# Altium schematic symbol library Resistors SMD.SchLib: 56 symbols
Pins are listed as number, name and electrical type; pins without a type are passive.

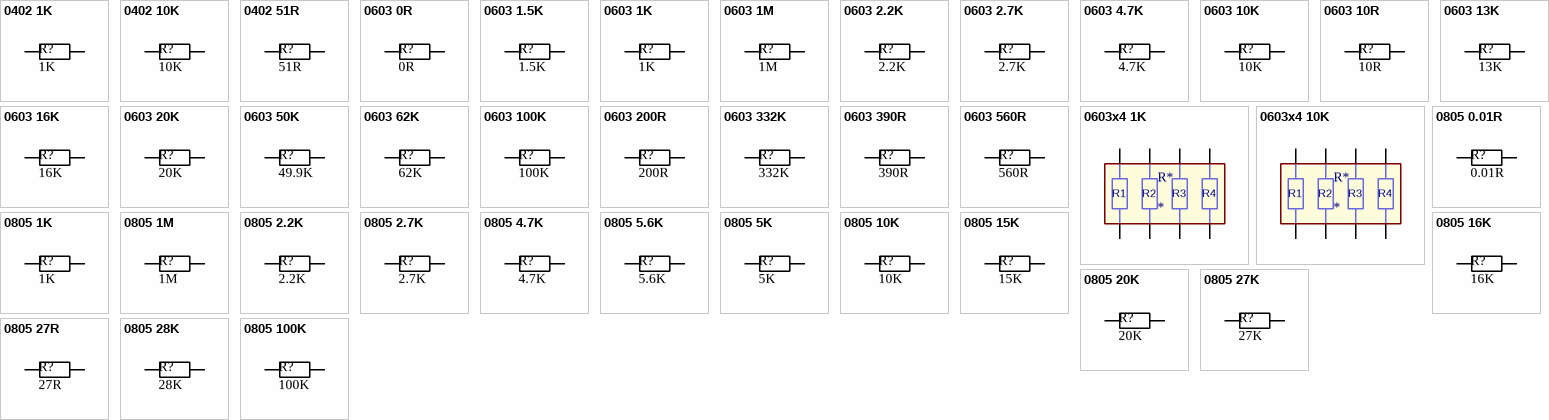
[diagram p0: symbols 0402 1K to 0805 100K]

## 0402 1K
designator R?, comment value 1K  (hidden comment: Resistor)
±1% 1/16W ±100ppm/℃ 1kΩ 0402 Chip Resistor - Surface Mount ROHS; LCSC Part #: C11702
footprint RES 0402_1005 RF (Chip Resistor, 2-Leads, Body 1.0x0.5mm, IPC High Density)
pins: 1, 2

## 0402 10K
designator R?, comment value 10K  (hidden comment: Resistor)
1/16W ±1% ±100ppm/℃ 10kΩ 0402 Chip Resistor - Surface Mount ROHS; LCSC Part #: C25744
footprint RES 0402_1005 RF (Chip Resistor, 2-Leads, Body 1.0x0.5mm, IPC High Density)
pins: 1, 2

## 0402 51R
designator R?, comment value 51R  (hidden comment: Resistor)
±1% ±200ppm/℃ 1/16W 51Ω 0402 Chip Resistor - Surface Mount ROHS; LCSC Part #: C25125
footprint RES 0402_1005 RF (Chip Resistor, 2-Leads, Body 1.0x0.5mm, IPC High Density)
pins: 1, 2

## 0603 0R
designator R?, comment value 0R  (hidden comment: Resistor)
- ±1% 0Ω 0.1W 0603 Chip Resistor - Surface Mount ROHS; LCSC Part #: C21189
footprint RES 0603_1608 (Chip Resistor, 2-Leads, Body 1.60x0.80mm, IPC Medium Density)
pins: 1, 2

## 0603 1.5K
designator R?, comment value 1.5K  (hidden comment: Resistor)
1.5kΩ ±1% 0.1W ±100ppm/℃ 0603 Chip Resistor - Surface Mount RoHS; LCSC Part #: C22843
footprint RES 0603_1608 (Chip Resistor, 2-Leads, Body 1.60x0.80mm, IPC Medium Density)
pins: 1, 2

## 0603 1K
designator R?, comment value 1K  (hidden comment: Resistor)
1kΩ ±1% 0.1W ±100ppm/℃ 0603 Chip Resistor - Surface Mount RoHS; LCSC Part #: C21190
footprint RES 0603_1608 (Chip Resistor, 2-Leads, Body 1.60x0.80mm, IPC Medium Density)
pins: 1, 2

## 0603 1M
designator R?, comment value 1M  (hidden comment: Resistor)
1MΩ ±1% ±100ppm/℃ 0.1W 0603 Chip Resistor - Surface Mount ROHS; LCSC Part #: C22935
footprint RES 0603_1608 (Chip Resistor, 2-Leads, Body 1.60x0.80mm, IPC Medium Density)
pins: 1, 2

## 0603 2.2K
designator R?, comment value 2.2K  (hidden comment: Resistor)
Chip Resistor - Surface Mount 2.2KOhms ±1% 1/10W 0603 RoHS; LCSC Part #: C4190
footprint RES 0603_1608 (Chip Resistor, 2-Leads, Body 1.60x0.80mm, IPC Medium Density)
pins: 1, 2

## 0603 2.7K
designator R?, comment value 2.7K  (hidden comment: Resistor)
±1% ±100ppm/℃ 2.7kΩ 0.1W 0603 Chip Resistor - Surface Mount ROHS; LCSC Part #: C13167
footprint RES 0603_1608 (Chip Resistor, 2-Leads, Body 1.60x0.80mm, IPC Medium Density)
pins: 1, 2

## 0603 4.7K
designator R?, comment value 4.7K  (hidden comment: Resistor)
4.7kΩ ±1% 0.1W ±100ppm/℃ 0603 Chip Resistor - Surface Mount RoHS; LCSC Part #: C23162
footprint RES 0603_1608 (Chip Resistor, 2-Leads, Body 1.60x0.80mm, IPC Medium Density)
pins: 1, 2

## 0603 10K
designator R?, comment value 10K  (hidden comment: Resistor)
Chip Resistor - Surface Mount 10KOhms ±1% 1/10W 0603 RoHS; LCSC Part #: C25804
footprint RES 0603_1608 (Chip Resistor, 2-Leads, Body 1.60x0.80mm, IPC Medium Density)
pins: 1, 2

## 0603 10R
designator R?, comment value 10R  (hidden comment: Resistor)
±1% ±400ppm/℃ 10Ω 0.1W 0603 Chip Resistor - Surface Mount ROHS; LCSC Part #: C22859
footprint RES 0603_1608 (Chip Resistor, 2-Leads, Body 1.60x0.80mm, IPC Medium Density)
pins: 1, 2

## 0603 13K
designator R?, comment value 13K  (hidden comment: Resistor)
13kΩ ±1% 0.1W ±100ppm/℃ 0603 Chip Resistor - Surface Mount RoHS; LCSC Part #: C22797
footprint RES 0603_1608 (Chip Resistor, 2-Leads, Body 1.60x0.80mm, IPC Medium Density)
pins: 1, 2

## 0603 16K
designator R?, comment value 16K  (hidden comment: Resistor)
16K ±1% 1/10W ±100ppm/°C 0603 Chip Resistor - Surface Mount RoHS; LCSC Part #: C22818
footprint RES 0603_1608 (Chip Resistor, 2-Leads, Body 1.60x0.80mm, IPC Medium Density)
pins: 1, 2

## 0603 20K
designator R?, comment value 20K  (hidden comment: Resistor)
Chip Resistor - Surface Mount 20KOhms ±1% 1/10W 0603 RoHS; LCSC Part #: C4184
footprint RES 0603_1608 (Chip Resistor, 2-Leads, Body 1.60x0.80mm, IPC Medium Density)
pins: 1, 2

## 0603 50K
designator R?, comment value 49.9K  (hidden comment: Resistor)
49.9kΩ ±1% 0.1W ±100ppm/℃ 0603 Chip Resistor - Surface Mount RoHS; LCSC Part #: C23184
footprint RES 0603_1608 (Chip Resistor, 2-Leads, Body 1.60x0.80mm, IPC Medium Density)
pins: 1, 2

## 0603 62K
designator R?, comment value 62K  (hidden comment: Resistor)
±1% 62kΩ ±100ppm/℃ 0.1W 0603 Chip Resistor - Surface Mount ROHS; LCSC Part #: C23221
footprint RES 0603_1608 (Chip Resistor, 2-Leads, Body 1.60x0.80mm, IPC Medium Density)
pins: 1, 2

## 0603 100K
designator R?, comment value 100K  (hidden comment: Resistor)
Chip Resistor - Surface Mount 100KOhms ±1% 1/10W 0603 RoHS; LCSC Part #: C25803
footprint RES 0603_1608 (Chip Resistor, 2-Leads, Body 1.60x0.80mm, IPC Medium Density)
pins: 1, 2

## 0603 200R
designator R?, comment value 200R  (hidden comment: Resistor)
200Ω ±1% 0.1W ±100ppm/℃ 0603 Chip Resistor - Surface Mount RoHS; LCSC Part #: C8218
footprint RES 0603_1608 (Chip Resistor, 2-Leads, Body 1.60x0.80mm, IPC Medium Density)
pins: 1, 2

## 0603 332K
designator R?, comment value 332K  (hidden comment: Resistor)
±1% ±100ppm/℃ 332kΩ 0.1W 0603 Chip Resistor - Surface Mount ROHS; LCSC Part #: C23139; JLCPCB Part Type: Extended
footprint RES 0603_1608 (Chip Resistor, 2-Leads, Body 1.60x0.80mm, IPC Medium Density)
pins: 1, 2

## 0603 390R
designator R?, comment value 390R  (hidden comment: Resistor)
±1% ±100ppm/℃ 0.1W 390Ω 0603 Chip Resistor - Surface Mount ROHS; LCSC Part #: C23151
footprint RES 0603_1608 (Chip Resistor, 2-Leads, Body 1.60x0.80mm, IPC Medium Density)
pins: 1, 2

## 0603 560R
designator R?, comment value 560R  (hidden comment: Resistor)
560Ω ±1% 0.1W ±100ppm/℃ 0603 Chip Resistor - Surface Mount RoHS; LCSC Part #: C23204
footprint RES 0603_1608 (Chip Resistor, 2-Leads, Body 1.60x0.80mm, IPC Medium Density)
pins: 1, 2

## 0603x4 1K
designator R*
Resistor Networks & Arrays 1kOhm ±5% 1/16W 0603_x4 RoHS; Value: 1K; ComponentLink1Description: LCSC - UNI-ROYAL(Uniroyal Elec) 4D03WGJ0102T5E; ComponentLink1URL: https://lcsc.com/product-detail/Resistor-Networks-Arrays_Uniroyal-Elec-4D03WGJ0102T5E_C20197.html/?href=jlc-SMT; LCSC Part #: C20197
footprint RESNET 1206-8 CONVEX (4 resistor 3.20x1.60mm, 0.7mm high)
pins: 1, 2, 3, 4, 5, 6, 7, 8
text: R1; R2; R3; R4

## 0603x4 10K
designator R*
10K ±5% 4 1/16W ±200ppm/℃ 0603_x4 Resistor Networks & Arrays RoHS; ComponentLink1Description: LCSC - UNI-ROYAL(Uniroyal Elec) 4D03WGJ0103T5E; ComponentLink1URL: https://lcsc.com/product-detail/Resistor-Networks-Arrays_Uniroyal-Elec-4D03WGJ0103T5E_C29718.html/?href=jlc-SMT; LCSC Part #: C29718; Value: 10K
footprint RESNET 1206-8 CONVEX (4 resistor 3.20x1.60mm, 0.7mm high)
pins: 1, 2, 3, 4, 5, 6, 7, 8
text: R1; R2; R3; R4

## 0805 0.01R
designator R?, comment value 0.01R  (hidden comment: Resistor)
0.01Ω ±1% 1/8W ±800ppm/°C 0805 Low Resistors & Current Sense Resistors - Surface Mount RoHS; LCSC Part #: C127699; ComponentLink1Description: LCSC - UNI-ROYAL(Uniroyal Elec) 0805W8F100MT5E; ComponentLink1URL: https://lcsc.com/product-detail/Low-Resistors-Current-Sense-Resistors-Surface-Mount_Uniroyal-Elec-0805W8F100MT5E_C127699.html/?href=jlc-SMT; JLCPCB Part Type: Extended
footprint RES 0805_2012 (Chip Resistor, 2-Leads, Body 2.00x1.25mm, IPC Medium Density)
pins: 1, 2

## 0805 1K
designator R?, comment value 1K  (hidden comment: Resistor)
Chip Resistor - Surface Mount 1KOhms ±1% 1/8W 0805 RoHS; LCSC Part #: C17513
footprint RES 0805_2012 (Chip Resistor, 2-Leads, Body 2.00x1.25mm, IPC Medium Density)
pins: 1, 2

## 0805 1M
designator R?, comment value 1M  (hidden comment: Resistor)
1MΩ ±1% 0.125W ±100ppm/℃ 0805 Chip Resistor - Surface Mount RoHS; LCSC Part #: C17514
footprint RES 0805_2012 (Chip Resistor, 2-Leads, Body 2.00x1.25mm, IPC Medium Density)
pins: 1, 2

## 0805 2.2K
designator R?, comment value 2.2K  (hidden comment: Resistor)
2.2kΩ ±1% 0.125W ±100ppm/℃ 0805 Chip Resistor - Surface Mount RoHS; LCSC Part #: C17520
footprint RES 0805_2012 (Chip Resistor, 2-Leads, Body 2.00x1.25mm, IPC Medium Density)
pins: 1, 2

## 0805 2.7K
designator R?, comment value 2.7K  (hidden comment: Resistor)
2.7kΩ ±1% 0.125W ±100ppm/℃ 0805 Chip Resistor - Surface Mount RoHS; LCSC Part #: C17530
footprint RES 0805_2012 (Chip Resistor, 2-Leads, Body 2.00x1.25mm, IPC Medium Density)
pins: 1, 2

## 0805 4.7K
designator R?, comment value 4.7K  (hidden comment: Resistor)
4.7kΩ ±1% 0.125W ±100ppm/℃ 0805 Chip Resistor - Surface Mount RoHS; LCSC Part #: C17673
footprint RES 0805_2012 (Chip Resistor, 2-Leads, Body 2.00x1.25mm, IPC Medium Density)
pins: 1, 2

## 0805 5.6K
designator R?, comment value 5.6K  (hidden comment: Resistor)
5.6kΩ ±1% 0.125W ±100ppm/℃ 0805 Chip Resistor - Surface Mount RoHS; LCSC Part #: C4382
footprint RES 0805_2012 (Chip Resistor, 2-Leads, Body 2.00x1.25mm, IPC Medium Density)
pins: 1, 2

## 0805 5K
designator R?, comment value 5K  (hidden comment: Resistor)
5K ±0.1% 1/4W ±25ppm/℃ 0805 High Precision & Low TCR SMD Resistors RoHS; LCSC Part #: C78980; JLCPCB Part Type: Extended
footprint RES 0805_2012 (Chip Resistor, 2-Leads, Body 2.00x1.25mm, IPC Medium Density)
pins: 1, 2

## 0805 10K
designator R?, comment value 10K  (hidden comment: Resistor)
10kΩ ±1% 0.125W ±100ppm/℃ 0805 Chip Resistor - Surface Mount RoHS; ComponentLink1Description: LCSC - UNI-ROYAL(Uniroyal Elec) 0805W8F1002T5E; ComponentLink1URL: https://lcsc.com/product-detail/Chip-Resistor-Surface-Mount_Uniroyal-Elec-0805W8F1002T5E_C17414.html/?href=jlc-SMT; LCSC Part #: C17414
footprint RES 0805_2012 (Chip Resistor, 2-Leads, Body 2.00x1.25mm, IPC Medium Density)
pins: 1, 2

## 0805 15K
designator R?, comment value 15K  (hidden comment: Resistor)
15K ±1% 1/8W ±100ppm/°C 0805 Chip Resistor - Surface Mount RoHS; ComponentLink1Description: LCSC  - UNI-ROYAL(Uniroyal Elec) 0805W8F1502T5E; ComponentLink1URL: https://lcsc.com/product-detail/Chip-Resistor-Surface-Mount_UNI-ROYAL-Uniroyal-Elec-0805W8F1502T5E_C17475.html; LCSC Part #: C17475
footprint RES 0805_2012 (Chip Resistor, 2-Leads, Body 2.00x1.25mm, IPC Medium Density)
pins: 1, 2

## 0805 16K
designator R?, comment value 16K  (hidden comment: Resistor)
16K ±1% 1/8W ±100ppm/°C 0805 Chip Resistor - Surface Mount RoHS; ComponentLink1Description: LCSC  - UNI-ROYAL(Uniroyal Elec) 0805W8F1602T5E; ComponentLink1URL: https://lcsc.com/product-detail/Chip-Resistor-Surface-Mount_UNI-ROYAL-Uniroyal-Elec-0805W8F1602T5E_C17490.html/?href=jlc-SMT; LCSC Part #: C17490
footprint RES 0805_2012 (Chip Resistor, 2-Leads, Body 2.00x1.25mm, IPC Medium Density)
pins: 1, 2

## 0805 20K
designator R?, comment value 20K  (hidden comment: Resistor)
20K ±1% 1/8W ±100ppm/°C 0805 Chip Resistor - Surface Mount RoHS; ComponentLink1Description: LCSC  - UNI-ROYAL(Uniroyal Elec) 0805W8F2002T5E; ComponentLink1URL: https://lcsc.com/product-detail/Chip-Resistor-Surface-Mount_Uniroyal-Elec-0805W8F2002T5E_C4328.html/?href=jlc-SMT; LCSC Part #: C4328
footprint RES 0805_2012 (Chip Resistor, 2-Leads, Body 2.00x1.25mm, IPC Medium Density)
pins: 1, 2

## 0805 27K
designator R?, comment value 27K  (hidden comment: Resistor)
27kΩ ±1% 0.125W ±100ppm/℃ 0805 Chip Resistor - Surface Mount RoHS; ComponentLink1Description: LCSC  - UNI-ROYAL(Uniroyal Elec) 0805W8F2702T5E; ComponentLink1URL: https://lcsc.com/product-detail/Chip-Resistor-Surface-Mount_Uniroyal-Elec-0805W8F2702T5E_C17593.html/?href=jlc-SMT; LCSC Part #: C17593
footprint RES 0805_2012 (Chip Resistor, 2-Leads, Body 2.00x1.25mm, IPC Medium Density)
pins: 1, 2

## 0805 27R
designator R?, comment value 27R  (hidden comment: Resistor)
27Ω ±1% 0.125W ±200ppm/℃ 0805 Chip Resistor - Surface Mount RoHS; LCSC Part #: C17594
footprint RES 0805_2012 (Chip Resistor, 2-Leads, Body 2.00x1.25mm, IPC Medium Density)
pins: 1, 2

## 0805 28K
designator R?, comment value 28K  (hidden comment: Resistor)
28kΩ ±1% 0.125W ±100ppm/℃ 0805 Chip Resistor - Surface Mount RoHS; ComponentLink1Description: LCSC  - UNI-ROYAL(Uniroyal Elec) 0805W8F2802T5E; ComponentLink1URL: https://lcsc.com/product-detail/Chip-Resistor-Surface-Mount_UNI-ROYAL-Uniroyal-Elec-0805W8F2802T5E_C17600.html; LCSC Part #: C17600; JLCPCB Part Type: Extended
footprint RES 0805_2012 (Chip Resistor, 2-Leads, Body 2.00x1.25mm, IPC Medium Density)
pins: 1, 2

## 0805 100K
designator R?, comment value 100K  (hidden comment: Resistor)
Chip Resistor - Surface Mount 100KOhms ±1% 1/8W 0805 RoHS; ComponentLink1Description: LCSC - UNI-ROYAL(Uniroyal Elec) 0805W8F1002T5E; ComponentLink1URL: https://lcsc.com/product-detail/Chip-Resistor-Surface-Mount_Uniroyal-Elec-0805W8F1002T5E_C17414.html/?href=jlc-SMT; LCSC Part #: C17407
footprint RES 0805_2012 (Chip Resistor, 2-Leads, Body 2.00x1.25mm, IPC Medium Density)
pins: 1, 2

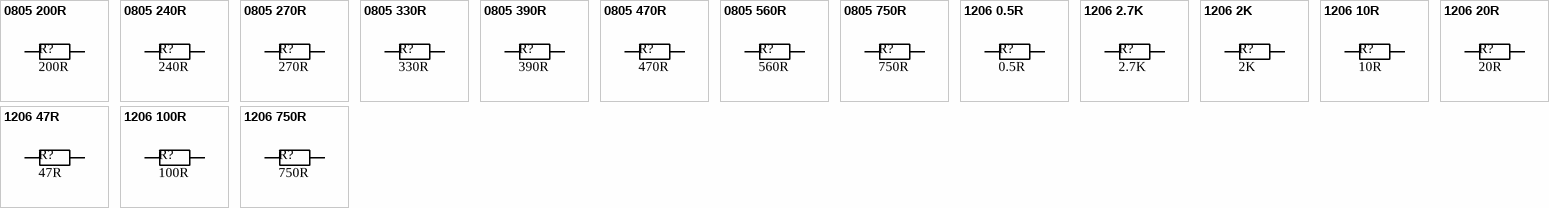
[diagram p1: symbols 0805 200R to 1206 750R]

## 0805 200R
designator R?, comment value 200R  (hidden comment: Resistor)
Chip Resistor - Surface Mount 200Ohms ±1% 1/8W 0805 RoHS; LCSC Part #: C17540
footprint RES 0805_2012 (Chip Resistor, 2-Leads, Body 2.00x1.25mm, IPC Medium Density)
pins: 1, 2

## 0805 240R
designator R?, comment value 240R  (hidden comment: Resistor)
240Ω ±1% 0.125W ±100ppm/℃ 0805 Chip Resistor - Surface Mount RoHS; LCSC Part #: C17572
footprint RES 0805_2012 (Chip Resistor, 2-Leads, Body 2.00x1.25mm, IPC Medium Density)
pins: 1, 2

## 0805 270R
designator R?, comment value 270R  (hidden comment: Resistor)
270Ω ±1% 0.125W ±100ppm/℃ 0805 Chip Resistor - Surface Mount RoHS; LCSC Part #: C17590
footprint RES 0805_2012 (Chip Resistor, 2-Leads, Body 2.00x1.25mm, IPC Medium Density)
pins: 1, 2

## 0805 330R
designator R?, comment value 330R  (hidden comment: Resistor)
330Ω ±1% 0.125W ±100ppm/℃ 0805 Chip Resistor - Surface Mount RoHS; LCSC Part #: C17630
footprint RES 0805_2012 (Chip Resistor, 2-Leads, Body 2.00x1.25mm, IPC Medium Density)
pins: 1, 2

## 0805 390R
designator R?, comment value 390R  (hidden comment: Resistor)
390Ω ±1% 0.125W ±100ppm/℃ 0805 Chip Resistor - Surface Mount RoHS; LCSC Part #: C17655
footprint RES 0805_2012 (Chip Resistor, 2-Leads, Body 2.00x1.25mm, IPC Medium Density)
pins: 1, 2

## 0805 470R
designator R?, comment value 470R  (hidden comment: Resistor)
470Ω ±1% 0.125W ±100ppm/℃ 0805 Chip Resistor - Surface Mount RoHS; LCSC Part #: C17710
footprint RES 0805_2012 (Chip Resistor, 2-Leads, Body 2.00x1.25mm, IPC Medium Density)
pins: 1, 2

## 0805 560R
designator R?, comment value 560R  (hidden comment: Resistor)
560Ω ±1% 0.125W ±100ppm/℃ 0805 Chip Resistor - Surface Mount RoHS; LCSC Part #: C28636
footprint RES 0805_2012 (Chip Resistor, 2-Leads, Body 2.00x1.25mm, IPC Medium Density)
pins: 1, 2

## 0805 750R
designator R?, comment value 750R  (hidden comment: Resistor)
750Ω ±1% 0.125W ±100ppm/℃ 0805 Chip Resistor - Surface Mount RoHS; LCSC Part #: C17818
footprint RES 0805_2012 (Chip Resistor, 2-Leads, Body 2.00x1.25mm, IPC Medium Density)
pins: 1, 2

## 1206 0.5R
designator R?, comment value 0.5R  (hidden comment: Resistor)
0.5Ω ±5% 1/4W ±800ppm/°C 1206 Low Resistors & Current Sense Resistors - Surface Mount RoHS; LCSC Part #: C247433; JLCPCB Part Type: Extended
footprint RES 1206_3216 (Chip Resistor, 2-Leads, Body 3.13x1.55mm, IPC Medium Density)
pins: 1, 2

## 1206 2.7K
designator R?, comment value 2.7K  (hidden comment: Resistor)
2.7kΩ ±1% 0.25W ±100ppm/℃ 1206 Chip Resistor - Surface Mount RoHS; LCSC Part #: C17950; ComponentLink1Description: LCSC - UNI-ROYAL(Uniroyal Elec) 1206W4F2701T5E; ComponentLink1URL: https://lcsc.com/product-detail/Chip-Resistor-Surface-Mount_Uniroyal-Elec-1206W4F2701T5E_C17950.html/?href=jlc-SMT; JLCPCB Part Type: Extended
footprint RES 1206_3216 (Chip Resistor, 2-Leads, Body 3.13x1.55mm, IPC Medium Density)
pins: 1, 2

## 1206 2K
designator R?, comment value 2K  (hidden comment: Resistor)
2kΩ ±1% 0.25W ±100ppm/℃ 1206 Chip Resistor - Surface Mount RoHS; LCSC Part #: C17944
footprint RES 1206_3216 (Chip Resistor, 2-Leads, Body 3.13x1.55mm, IPC Medium Density)
pins: 1, 2

## 1206 10R
designator R?, comment value 10R  (hidden comment: Resistor)
10Ω ±1% 0.25W ±400ppm/℃ 1206 Chip Resistor - Surface Mount RoHS; LCSC Part #: C17903
footprint RES 1206_3216 (Chip Resistor, 2-Leads, Body 3.13x1.55mm, IPC Medium Density)
pins: 1, 2

## 1206 20R
designator R?, comment value 20R  (hidden comment: Resistor)
20Ω ±1% 0.25W ±200ppm/℃ 1206 Chip Resistor - Surface Mount RoHS; LCSC Part #: C17955
footprint RES 1206_3216 (Chip Resistor, 2-Leads, Body 3.13x1.55mm, IPC Medium Density)
pins: 1, 2

## 1206 47R
designator R?, comment value 47R  (hidden comment: Resistor)
47Ω ±5% 0.25W ±200ppm/℃ 1206 Chip Resistor - Surface Mount RoHS; LCSC Part #: C25384; ComponentLink1Description: LCSC - UNI-ROYAL(Uniroyal Elec) 1206W4J0470T5E; ComponentLink1URL: https://lcsc.com/product-detail/Chip-Resistor-Surface-Mount_Uniroyal-Elec-1206W4J0470T5E_C25384.html/?href=jlc-SMT; JLCPCB Part Type: Extended
footprint RES 1206_3216 (Chip Resistor, 2-Leads, Body 3.13x1.55mm, IPC Medium Density)
pins: 1, 2

## 1206 100R
designator R?, comment value 100R  (hidden comment: Resistor)
100Ω ±1% 0.25W ±200ppm/℃ 1206 Chip Resistor - Surface Mount RoHS; LCSC Part #: C17901
footprint RES 1206_3216 (Chip Resistor, 2-Leads, Body 3.13x1.55mm, IPC Medium Density)
pins: 1, 2

## 1206 750R
designator R?, comment value 750R  (hidden comment: Resistor)
750Ω ±1% 0.25W ±100ppm/℃ 1206 Chip Resistor - Surface Mount RoHS; LCSC Part #: C17985
footprint RES 1206_3216 (Chip Resistor, 2-Leads, Body 3.13x1.55mm, IPC Medium Density)
pins: 1, 2